# Altium schematic symbol library DIODE-3.SchLib: 1 symbol
Pins are listed as number, name and electrical type; pins without a type are passive.

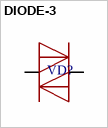
[diagram p0: symbol DIODE-3]

## DIODE-3
designator VD?
pins: 1 C, 2 A